# EAGLE library part PIC18F8490 (library microchip-dspic)
PIC18F Flash Microcontroller with LCD driver
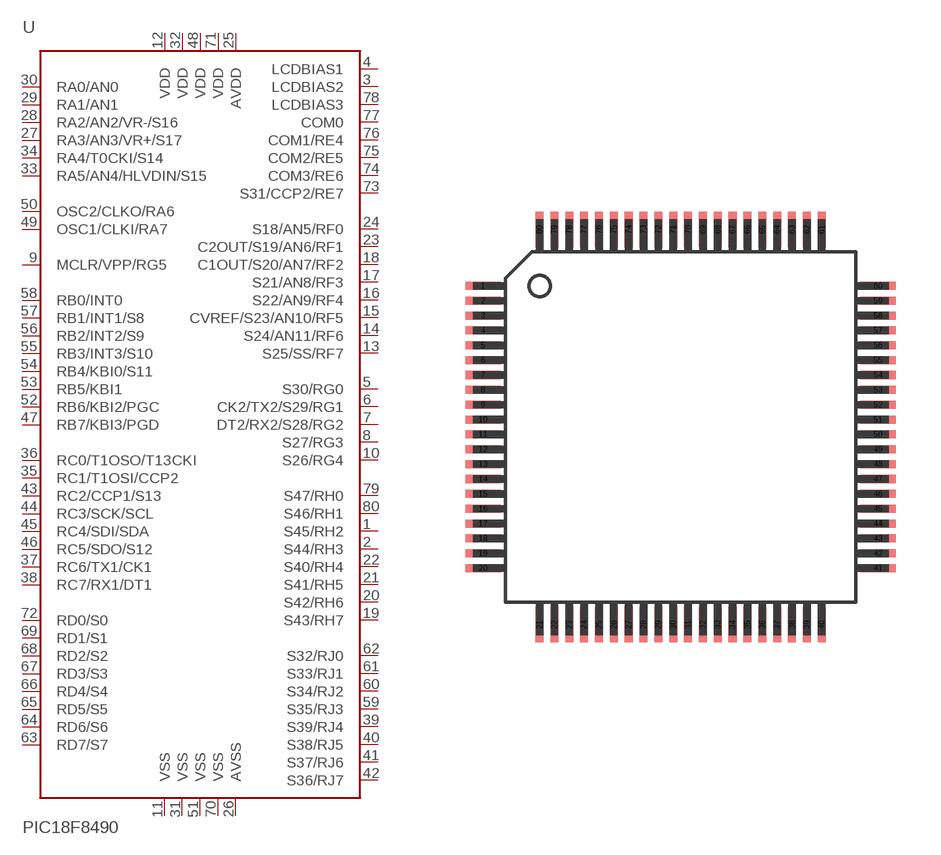
[diagram p27: symbol with the pads of TQFP80-12X12; footprint TQFP80-12X12]

Designator prefix -

## PIC18F8490TQ-80  [TQFP80-12X12]
1  S45/RH2
2  S44/RH3
3  LCDBIAS2  in
4  LCDBIAS1  in
5  S30/RG0
6  CK2/TX2/S29/RG1
7  DT2/RX2/S28/RG2
8  S27/RG3
9  MCLR/VPP/RG5  in
10  S26/RG4
11  VSS  pwr
12  VDD  pwr
13  S25/SS/RF7
14  S24/AN11/RF6
15  CVREF/S23/AN10/RF5
16  S22/AN9/RF4
17  S21/AN8/RF3
18  C1OUT/S20/AN7/RF2
19  S43/RH7
20  S42/RH6
21  S41/RH5
22  S40/RH4
23  C2OUT/S19/AN6/RF1
24  S18/AN5/RF0
25  AVDD  pwr
26  AVSS  pwr
27  RA3/AN3/VR+/S17
28  RA2/AN2/VR-/S16
29  RA1/AN1
30  RA0/AN0
31  VSS  pwr
32  VDD  pwr
33  RA5/AN4/HLVDIN/S15
34  RA4/T0CKI/S14
35  RC1/T1OSI/CCP2
36  RC0/T1OSO/T13CKI
37  RC6/TX1/CK1
38  RC7/RX1/DT1
39  S39/RJ4
40  S38/RJ5
41  S37/RJ6
42  S36/RJ7
43  RC2/CCP1/S13
44  RC3/SCK/SCL
45  RC4/SDI/SDA
46  RC5/SDO/S12
47  RB7/KBI3/PGD
48  VDD  pwr
49  OSC1/CLKI/RA7
50  OSC2/CLKO/RA6
51  VSS  pwr
52  RB6/KBI2/PGC
53  RB5/KBI1
54  RB4/KBI0/S11
55  RB3/INT3/S10
56  RB2/INT2/S9
57  RB1/INT1/S8
58  RB0/INT0
59  S35/RJ3
60  S34/RJ2
61  S33/RJ1
62  S32/RJ0
63  RD7/S7
64  RD6/S6
65  RD5/S5
66  RD4/S4
67  RD3/S3
68  RD2/S2
69  RD1/S1
70  VSS  pwr
71  VDD  pwr
72  RD0/S0
73  S31/CCP2/RE7
74  COM3/RE6
75  COM2/RE5
76  COM1/RE4
77  COM0  out
78  LCDBIAS3  in
79  S47/RH0
80  S46/RH1

## Footprint TQFP80-12X12 (pad centres in mm)
Thin Quad Flat Pack
smd 1.2 x 0.27: 1 -6.65,4.75; 2 -6.65,4.25; 3 -6.65,3.75; 4 -6.65,3.25; 5 -6.65,2.75; 6 -6.65,2.25; 7 -6.65,1.75; 8 -6.65,1.25; 9 -6.65,0.75; 10 -6.65,0.25; 11 -6.65,-0.25; 12 -6.65,-0.75; 13 -6.65,-1.25; 14 -6.65,-1.75; 15 -6.65,-2.25; 16 -6.65,-2.75; 17 -6.65,-3.25; 18 -6.65,-3.75; 19 -6.65,-4.25; 20 -6.65,-4.75; 41 6.65,-4.75; 42 6.65,-4.25; 43 6.65,-3.75; 44 6.65,-3.25; 45 6.65,-2.75; 46 6.65,-2.25; 47 6.65,-1.75; 48 6.65,-1.25; 49 6.65,-0.75; 50 6.65,-0.25; 51 6.65,0.25; 52 6.65,0.75; 53 6.65,1.25; 54 6.65,1.75; 55 6.65,2.25; 56 6.65,2.75; 57 6.65,3.25; 58 6.65,3.75; 59 6.65,4.25; 60 6.65,4.75
smd 0.27 x 1.2: 21 -4.75,-6.65; 22 -4.25,-6.65; 23 -3.75,-6.65; 24 -3.25,-6.65; 25 -2.75,-6.65; 26 -2.25,-6.65; 27 -1.75,-6.65; 28 -1.25,-6.65; 29 -0.75,-6.65; 30 -0.25,-6.65; 31 0.25,-6.65; 32 0.75,-6.65; 33 1.25,-6.65; 34 1.75,-6.65; 35 2.25,-6.65; 36 2.75,-6.65; 37 3.25,-6.65; 38 3.75,-6.65; 39 4.25,-6.65; 40 4.75,-6.65; 61 4.75,6.65; 62 4.25,6.65; 63 3.75,6.65; 64 3.25,6.65; 65 2.75,6.65; 66 2.25,6.65; 67 1.75,6.65; 68 1.25,6.65; 69 0.75,6.65; 70 0.25,6.65; 71 -0.25,6.65; 72 -0.75,6.65; 73 -1.25,6.65; 74 -1.75,6.65; 75 -2.25,6.65; 76 -2.75,6.65; 77 -3.25,6.65; 78 -3.75,6.65; 79 -4.25,6.65; 80 -4.75,6.65